# Altium footprint library SLP2510P8.PcbLib: 1 footprints
Each footprint in its own frame and in the unit in brackets; x right, y up, seen from the top. Pads: shape width x height; smd on the part's side, far side on the other; paste and mask are expansions set on the pad; w line width, h text height; cw(c..) or ccw(c..) is an arc to the next point about the centre after c.
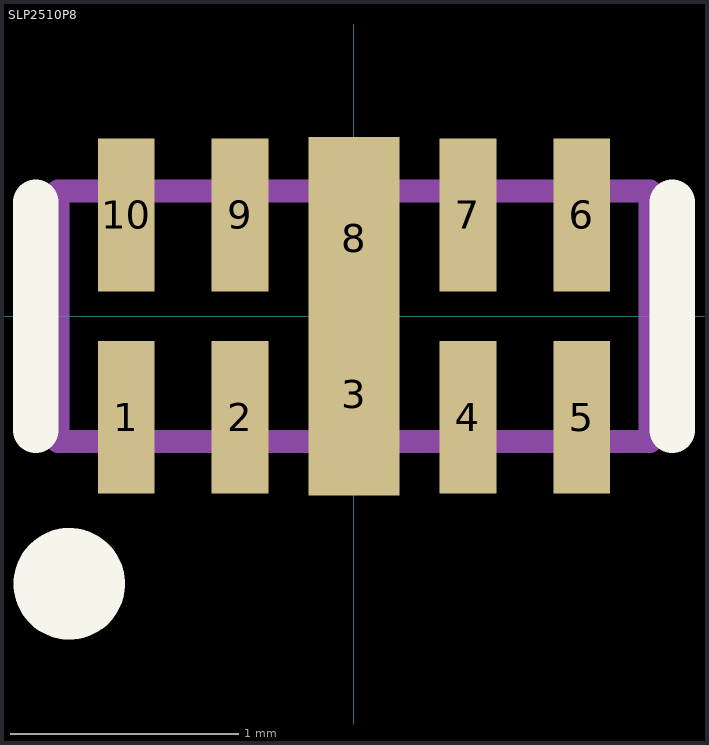
[diagram p0: the footprint, top view; thin cyan lines are the x and y axes]

## SLP2510P8 [mm]
pads (10):
  rect 0.25x0.67 smd mask+0.051: 1(-1,-0.445) 2(-0.5,-0.445) 4(0.5,-0.445) 5(1,-0.445) 6(1,0.445) 7(0.5,0.445) 9(-0.5,0.445) 10(-1,0.445)
  rect 0.4x0.889 smd mask+0.051: 3(0,-0.343) 8(0,0.343)
Top Overlay:
  circle w0.25: c-1.25,-1.175 r0.12
  lines w0.2: -1.397,-0.5 -1.397,0.5 ; 1.397,-0.5 1.397,0.5
Mechanical 13:
  lines w0.1: -1.3,-0.55 1.3,-0.55 1.3,0.55 -1.3,0.55 -1.3,-0.55